# Altium schematic symbol library WRA2415D-20W.SchLib: 1 symbol
Pins are listed as number, name and electrical type; pins without a type are passive.

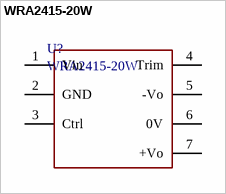
[diagram p0: symbol WRA2415-20W]

## WRA2415-20W
designator U?
DC-DC MORNSUN
footprint WRA2415-20W
pins: 1 Vin "Termal Pad", 2 GND "Termal Pad", 3 Ctrl "Termal Pad", 4 Trim "Termal Pad", 5 -Vo "Termal Pad", 6 0V "Termal Pad", 7 +Vo "Termal Pad"